# Altium schematic symbol library Resistors.SchLib: 26 symbols
Pins are listed as number, name and electrical type; pins without a type are passive.

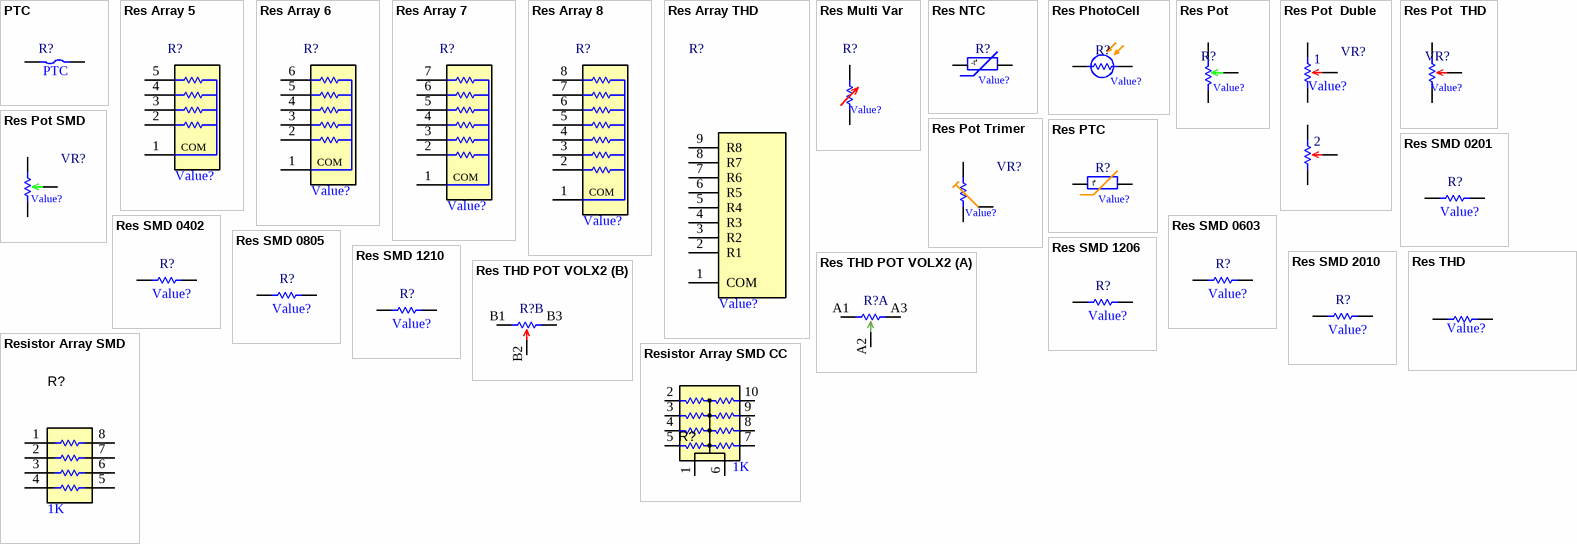
[diagram p0: symbols PTC to Resistor Array SMD CC]

## PTC
designator R?  value PTC
PTC Resettable Fuse 2A(hold) 3.8A(trip) 16V 1.4W 3s 0.045Ohm Radial 9.4 X 3mm Bag; DatasheetVersion: 2022
pins: 1, 2

## Res Array 5
designator R?, comment Value?
Value: Value?
pins: 1 COM, 2 R1, 3 R2, 4 R3, 5 R4

## Res Array 6
designator R?, comment Value?
Value: Value?
pins: 1 COM, 2 R1, 3 R2, 4 R3, 5 R4, 6 R5

## Res Array 7
designator R?, comment Value?
Value: Value?
pins: 1 COM, 2 R1, 3 R2, 4 R3, 5 R4, 6 R5, 7 R7

## Res Array 8
designator R?, comment Value?
Value: Value?
pins: 1 COM, 2 R1, 3 R2, 4 R3, 5 R4, 6 R5, 7 R7, 8

## Res Array THD
designator R?  =Value: Value?
Resistor Array THD; DatasheetVersion: 2022
pins: 1 COM, 2 R1, 3 R2, 4 R3, 5 R4, 6 R5, 7 R6, 8 R7, 9 R8

## Res Multi Var
designator R?, comment Value?
Value: Value?
pins: 1, 2

## Res NTC
designator R?, comment Value?
Value: Value?
pins: 1, 2
text: -t

## Res PhotoCell
designator R?, comment Value?
Value: Value?
pins: 1, 2

## Res Pot
designator R?, comment Value?
Value: Value?
pins: 1, 2, 3

## Res Pot  Duble
designator VR?  =Value: Value?
Pot  Duble THD; DatasheetVersion: 2022
pins: 1-1, 1-2, 1-3, 2-1, 2-2, 2-3
text: 1; 2

## Res Pot  THD
designator VR?  =Value: Value?
Pot  THD; DatasheetVersion: 2022
pins: 1, 2, 3

## Res Pot SMD
designator VR?, comment Value?
Potentiometr SMD; DatasheetVersion: 2022; Value: Value?
pins: 1 CCW, 2, 3

## Res Pot Trimer
designator VR?  =Value: Value?
Potentiometr Trimer / Multi Turn THD; DatasheetVersion: 2022
pins: 1, 2, 3

## Res PTC
designator R?, comment Value?
Value: Value?
pins: 1, 2
text: t

## Res SMD 0201
designator R?  =Value: Value?
Resistor SMD 0201
pins: 1, 2

## Res SMD 0402
designator R?  =Value: Value?
Resistor SMD 0402
pins: 1, 2

## Res SMD 0603
designator R?  =Value: Value?
Resistor SMD 0603
pins: 1, 2

## Res SMD 0805
designator R?  =Value: Value?
Resistor SMD 0805
pins: 1, 2

## Res SMD 1206
designator R?  =Value: Value?
Resistor SMD 1206
pins: 1, 2

## Res SMD 1210
designator R?  =Value: Value?
Resistor SMD 1210
pins: 1, 2

## Res SMD 2010
designator R?  =Value: Value?
Resistor SMD 1210
pins: 1, 2

## Res THD
designator R?, comment Value?
Resistor THD; Value: Value?
pins: 1, 2

## Res THD POT VOLX2
designator R?, comment Value?  (value not drawn)
Res THD POT VOLX2; Value: Value?
part A pins: A1 TOP, A2 TAP, A3 BOT
part B pins: B1 TOP, B2 TAP, B3 BOT

## Resistor Array SMD
designator R?  value 1K
Resistor Array SMD; DatasheetVersion: 2022
pins: 1, 2, 3, 4, 5, 6, 7, 8

## Resistor Array SMD CC
designator R?
Resistor Array SMD CC; DatasheetVersion: 2022
pins: 1 COM, 2, 3, 4, 5, 6 COM, 7, 8, 9, 10
text: 1K